# EAGLE library part 61002418321 (library Wurth_Elektronik2)
WR-PHD 2.54mm SMT Pin Header, 24 Pins =>Code : Con_BTB_PHD_2.54_1_SMT_61002418321 <http://katalog.we-online.de/media/images/eican/Con_BTB_PHD_2.54_1_SMT_6100xx18221_pf2.jpg> Details see: http://katalog.we-online.de/en/em/610_0xx_182_21 Created 2014-05-29, Karrer Zheng 2014 (C) Würth Elektronik
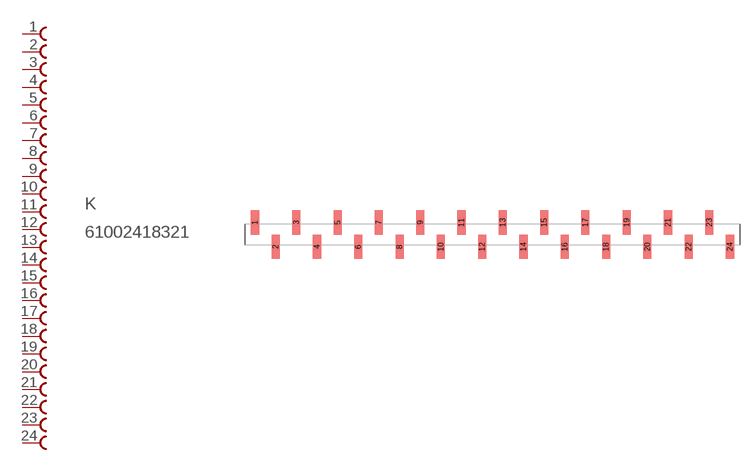
[diagram p70: symbol with the pads of 61002418321; footprint 61002418321]

Designator prefix K

## 61002418321  [61002418321]
1  1  pas
2  2  pas
3  3  pas
4  4  pas
5  5  pas
6  6  pas
7  7  pas
8  8  pas
9  9  pas
10  10  pas
11  11  pas
12  12  pas
13  13  pas
14  14  pas
15  15  pas
16  16  pas
17  17  pas
18  18  pas
19  19  pas
20  20  pas
21  21  pas
22  22  pas
23  23  pas
24  24  pas

## Footprint 61002418321 (pad centres in mm)
WR-PHD 2.54mm SMT Pin Header, 24 Pins
smd 1 x 3: 1 -31.75,1.5; 2 -29.21,-1.5; 3 -26.67,1.5; 4 -24.13,-1.5; 5 -21.59,1.5; 6 -19.05,-1.5; 7 -16.51,1.5; 8 -13.97,-1.5; 9 -11.43,1.5; 10 -8.89,-1.5; 11 -6.35,1.5; 12 -3.81,-1.5; 13 -1.27,1.5; 14 1.27,-1.5; 15 3.81,1.5; 16 6.35,-1.5; 17 8.89,1.5; 18 11.43,-1.5; 19 13.97,1.5; 20 16.51,-1.5; 21 19.05,1.5; 22 21.59,-1.5; 23 24.13,1.5; 24 26.67,-1.5